# EAGLE library part LORA_RA1 (library loraRa01)
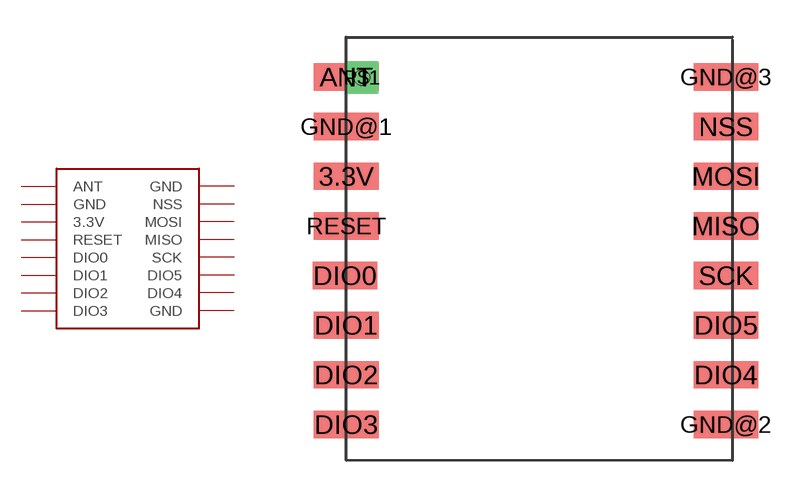
[diagram p0: symbol with the pads of LORA_RA1; footprint LORA_RA1]

Designator prefix -

## LORA_RA1  [LORA_RA1]
3.3V  3.3V  pwr
ANT  ANT
DIO0  DIO0
DIO1  DIO1
DIO2  DIO2
DIO3  DIO3
DIO4  DIO4
DIO5  DIO5
GND@1  GND  pwr
GND@2  GND  pwr
GND@3  GND  pwr
MISO  MISO
MOSI  MOSI
NSS  NSS
RESET  RESET
SCK  SCK

## Footprint LORA_RA1 (pad centres in mm)
smd 2.6 x 1.1: 3.3V 0,10; ANT 0,14; DIO0 -0.05,6; DIO1 0,4; DIO2 0,2; DIO3 0,0; DIO4 15.3,2; DIO5 15.3,4; GND@1 0,12; GND@2 15.3,0; GND@3 15.3,14; MISO 15.3,8; MOSI 15.3,10; NSS 15.3,12; RESET 0,8; SCK 15.3,6
drill 0.8 square: P$1 0.635,13.97
hole 0.6 at 0.635,13.97